# EAGLE library part ARDUINO-PRO-MINI-LIMITED (library decoderP3 v2)
Arduion Pro Mini Clone V1.0 www.betemcu.cu
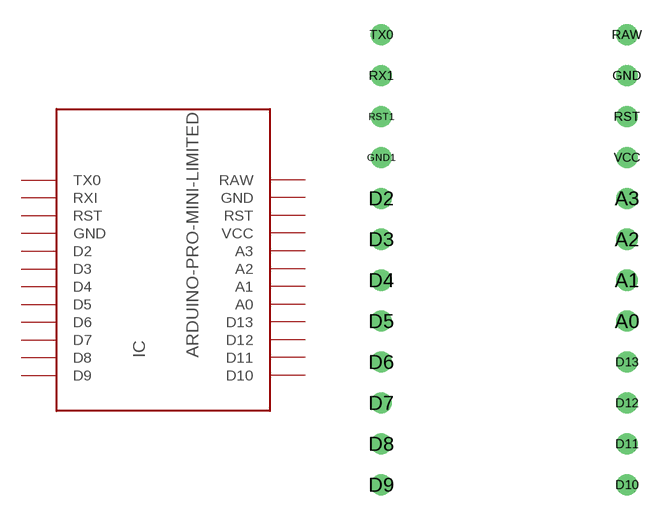
[diagram p1: symbol with the pads of ARDUINO-PRO-MINI-LIMITED; footprint ARDUINO-PRO-MINI-LIMITED]

Designator prefix IC

## ARDUINO-PRO-MINI-LIMITED  [ARDUINO-PRO-MINI-LIMITED]
A0  A0
A1  A1
A2  A2
A3  A3
D2  D2
D3  D3
D4  D4
D5  D5
D6  D6
D7  D7
D8  D8
D9  D9
D10  D10
D11  D11
D12  D12
D13  D13
GND  GND  nc
GND1  GND  in
RAW  RAW  nc
RST  RST  nc
RST1  RST  nc
RX1  RXI  nc
TX0  TX0  nc
VCC  VCC  pwr

## Footprint ARDUINO-PRO-MINI-LIMITED (pad centres in mm)
Arduino Pro Mini Clone
drill 0.8: A0 8.89,8.89; A1 8.89,11.43; A2 8.89,13.97; A3 8.89,16.51; D2 -6.35,16.51; D3 -6.35,13.97; D4 -6.35,11.43; D5 -6.35,8.89; D6 -6.35,6.35; D7 -6.35,3.81; D8 -6.35,1.27; D9 -6.35,-1.27; D10 8.89,-1.27; D11 8.89,1.27; D12 8.89,3.81; D13 8.89,6.35; GND 8.89,24.13; GND1 -6.35,19.05; RAW 8.89,26.67; RST 8.89,21.59; RST1 -6.35,21.59; RX1 -6.35,24.13; TX0 -6.35,26.67; VCC 8.89,19.05